# Altium footprint library PcbLib1.PcbLib: 2 footprints
Each footprint in its own frame and in the unit in brackets; x right, y up, seen from the top. Pads: shape width x height; smd on the part's side, far side on the other; paste and mask are expansions set on the pad; w line width, h text height; cw(c..) or ccw(c..) is an arc to the next point about the centre after c.
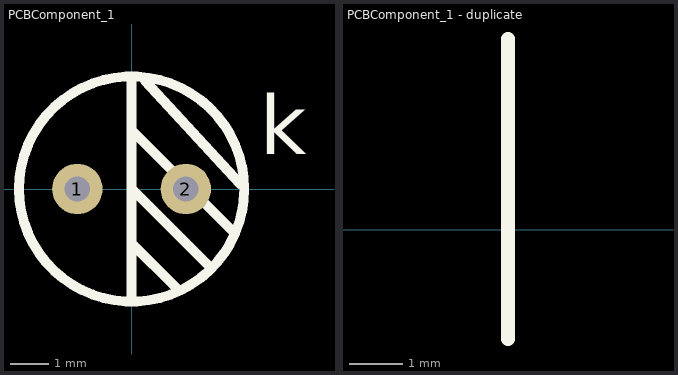
[diagram p0: the footprints below, top view; thin cyan lines are the x and y axes]

## PCBComponent_1 [mm]
height 8.7
pads (2):
  round 1.3 hole 0.65: 1(-1.397,0) 2(1.397,0)
Top Overlay:
  circle w0.254: c0,0 r2.9
  lines w0.254: 0,-2.9 0,2.9 0,2.159 0,0.889 ; 0,-1.27 0,-1.397 1.143,-2.54 ; 0,0.011 2.032,-2.021 ; 0,1.524 2.667,-1.143 ; 0.343,2.794 2.794,0.127
  text "k" at 3.302,0.889 h1.52

## PCBComponent_1 - duplicate [mm]
Top Overlay:
  lines w0.254: -12.827,-2.032 -12.827,3.556